# Altium schematic symbol library MD_DCDC_ON.SchLib: 2 symbols
Pins are listed as number, name and electrical type; pins without a type are passive.

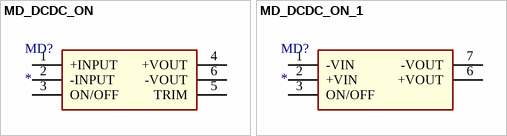
[diagram p0: symbols MD_DCDC_ON to MD_DCDC_ON_1]

## MD_DCDC_ON
designator MD?
pins: 1 +INPUT, 2 -INPUT, 3 ON/OFF, 4 +VOUT, 5 TRIM, 6 -VOUT

## MD_DCDC_ON_1
designator MD?
pins: 1 -VIN, 2 +VIN, 3 ON/OFF, 6 +VOUT, 7 -VOUT